# Altium schematic symbol library WCAP-AIG5.SchLib: 42 symbols
Pins are listed as number, name and electrical type; pins without a type are passive.

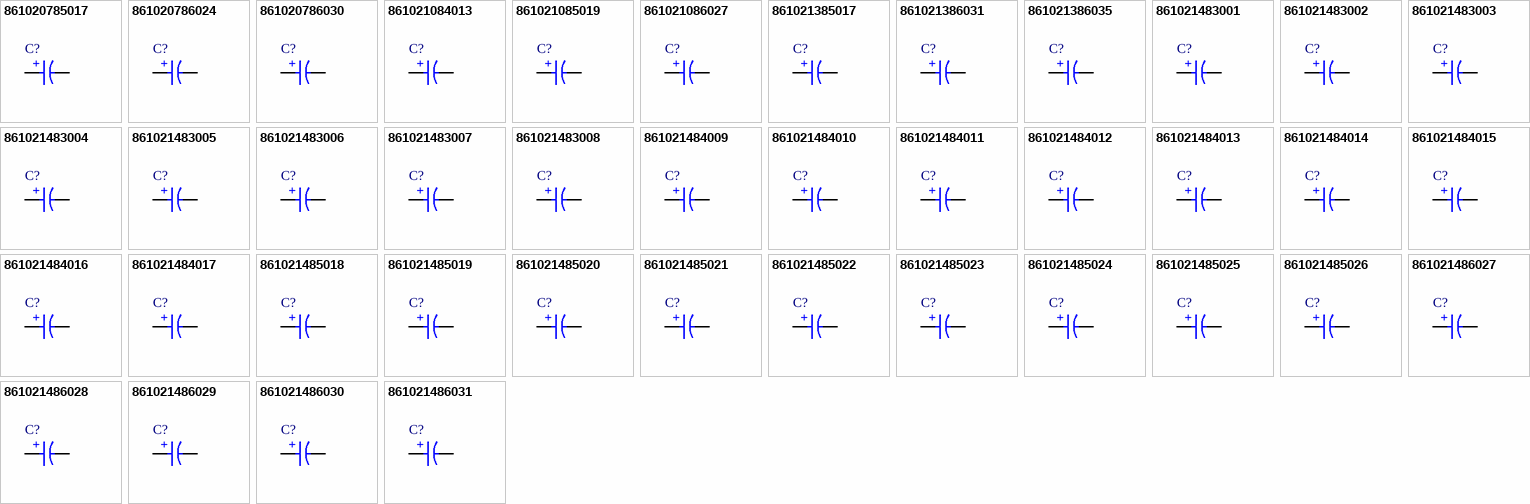
[diagram p0: symbols 861020785017 to 861021486031]

## 861020785017
designator C?, comment 3300uF  (value not drawn)
WCAP-AIG5 Aluminum Electrolytic Capacitor, THT, D30 x H30mm, 3300uF, 63V; Manufacturer Part Number: 861020785017; Manufacturer: Wurth Elektronik; Dissipation Factor: 20%; Endurance: 2000h; Leakage Current: 4158uA; Ripple Current: 2480mA; Product Series: WCAP-AIG5; ComponentLink1Description: Website Link; ComponentLink1URL: https://www.we-online.com; ComponentLink2Description: Datasheet Link; ComponentLink2URL: https://www.we-online.com/components/products/datasheet/861020785017; Mount: Through Hole; Operating Temperature Min: -40degC; Operating Temperature Max: 105degC; Packaging: Tray; Height: 30mm; Diameter: 30mm; Capacitance: 3300uF; Lead Pitch: 10mm; Rated Voltage (DC): 63V
footprint WCAP-AIG5_D30H30
simulation model 861020785017_3.3mF
pins: 1 P, 2 N
text: +

## 861020786024
designator C?, comment 4700uF  (value not drawn)
WCAP-AIG5 Aluminum Electrolytic Capacitor, THT, D35 x H30mm, 4700uF, 63V; Manufacturer Part Number: 861020786024; Manufacturer: Wurth Elektronik; Dissipation Factor: 30%; Endurance: 2000h; Leakage Current: 5922uA; Ripple Current: 3430mA; Product Series: WCAP-AIG5; ComponentLink1Description: Website Link; ComponentLink1URL: https://www.we-online.com; ComponentLink2Description: Datasheet Link; ComponentLink2URL: https://www.we-online.com/components/products/datasheet/861020786024; Mount: Through Hole; Operating Temperature Min: -40degC; Operating Temperature Max: 105degC; Packaging: Tray; Height: 30mm; Diameter: 35mm; Capacitance: 4700uF; Lead Pitch: 10mm; Rated Voltage (DC): 63V
footprint WCAP-AIG5_D35H30
simulation model 861020786024_4.7mF
pins: 1 P, 2 N
text: +

## 861020786030
designator C?, comment 10000uF  (value not drawn)
WCAP-AIG5 Aluminum Electrolytic Capacitor, THT, D35 x H45mm, 10000uF, 63V; Manufacturer Part Number: 861020786030; Manufacturer: Wurth Elektronik; Dissipation Factor: 30%; Endurance: 2000h; Leakage Current: 12600uA; Ripple Current: 5510mA; Product Series: WCAP-AIG5; ComponentLink1Description: Website Link; ComponentLink1URL: https://www.we-online.com; ComponentLink2Description: Datasheet Link; ComponentLink2URL: https://www.we-online.com/components/products/datasheet/861020786030; Mount: Through Hole; Operating Temperature Min: -40degC; Operating Temperature Max: 105degC; Packaging: Tray; Height: 45mm; Diameter: 35mm; Capacitance: 10000uF; Lead Pitch: 10mm; Rated Voltage (DC): 63V
footprint WCAP-AIG5_D35H45
simulation model 861020786030_10mF
pins: 1 P, 2 N
text: +

## 861021084013
designator C?, comment 470uF  (value not drawn)
WCAP-AIG5 Aluminum Electrolytic Capacitor, THT, D25 x H25mm, 470uF, 200V; Manufacturer Part Number: 861021084013; Manufacturer: Wurth Elektronik; Dissipation Factor: 15%; Endurance: 2000h; Leakage Current: 1880uA; Ripple Current: 1490mA; Product Series: WCAP-AIG5; ComponentLink1Description: Website Link; ComponentLink1URL: https://www.we-online.com; ComponentLink2Description: Datasheet Link; ComponentLink2URL: https://www.we-online.com/components/products/datasheet/861021084013; Mount: Through Hole; Operating Temperature Min: -25degC; Operating Temperature Max: 105degC; Packaging: Tray; Height: 25mm; Diameter: 25mm; Capacitance: 470uF; Lead Pitch: 10mm; Rated Voltage (DC): 200V
footprint WCAP-AIG5_D25H25
simulation model 861021084013_470uF
pins: 1 P, 2 N
text: +

## 861021085019
designator C?, comment 680uF  (value not drawn)
WCAP-AIG5 Aluminum Electrolytic Capacitor, THT, D30 x H30mm, 680uF, 200V; Manufacturer Part Number: 861021085019; Manufacturer: Wurth Elektronik; Dissipation Factor: 15%; Endurance: 2000h; Leakage Current: 2720uA; Ripple Current: 2150mA; Product Series: WCAP-AIG5; ComponentLink1Description: Website Link; ComponentLink1URL: https://www.we-online.com; ComponentLink2Description: Datasheet Link; ComponentLink2URL: https://www.we-online.com/components/products/datasheet/861021085019; Mount: Through Hole; Operating Temperature Min: -25degC; Operating Temperature Max: 105degC; Packaging: Tray; Height: 30mm; Diameter: 30mm; Capacitance: 680uF; Lead Pitch: 10mm; Rated Voltage (DC): 200V
footprint WCAP-AIG5_D30H30
simulation model 861021085019_680uF
pins: 1 P, 2 N
text: +

## 861021086027
designator C?, comment 1000uF  (value not drawn)
WCAP-AIG5 Aluminum Electrolytic Capacitor, THT, D35 x H30mm, 1000uF, 200V; Manufacturer Part Number: 861021086027; Manufacturer: Wurth Elektronik; Dissipation Factor: 15%; Endurance: 2000h; Leakage Current: 4000uA; Ripple Current: 2580mA; Product Series: WCAP-AIG5; ComponentLink1Description: Website Link; ComponentLink1URL: https://www.we-online.com; ComponentLink2Description: Datasheet Link; ComponentLink2URL: https://www.we-online.com/components/products/datasheet/861021086027; Mount: Through Hole; Operating Temperature Min: -25degC; Operating Temperature Max: 105degC; Packaging: Tray; Height: 30mm; Diameter: 35mm; Capacitance: 1000uF; Lead Pitch: 10mm; Rated Voltage (DC): 200V
footprint WCAP-AIG5_D35H30
simulation model 861021086027_1mF
pins: 1 P, 2 N
text: +

## 861021385017
designator C?, comment 220uF  (value not drawn)
WCAP-AIG5 Aluminum Electrolytic Capacitor, THT, D30 x H25mm, 220uF, 400V; Manufacturer Part Number: 861021385017; Manufacturer: Wurth Elektronik; Dissipation Factor: 20%; Endurance: 2000h; Leakage Current: 1760uA; Ripple Current: 1110mA; Product Series: WCAP-AIG5; ComponentLink1Description: Website Link; ComponentLink1URL: https://www.we-online.com; ComponentLink2Description: Datasheet Link; ComponentLink2URL: https://www.we-online.com/components/products/datasheet/861021385017; Mount: Through Hole; Operating Temperature Min: -25degC; Operating Temperature Max: 105degC; Packaging: Tray; Height: 25mm; Diameter: 30mm; Capacitance: 220uF; Lead Pitch: 10mm; Rated Voltage (DC): 400V
footprint WCAP-AIG5_D30H25
simulation model 861021385017_220uF
pins: 1 P, 2 N
text: +

## 861021386031
designator C?, comment 470uF  (value not drawn)
WCAP-AIG5 Aluminum Electrolytic Capacitor, THT, D35 x H35mm, 470uF, 400V; Manufacturer Part Number: 861021386031; Manufacturer: Wurth Elektronik; Dissipation Factor: 20%; Endurance: 2000h; Leakage Current: 3760uA; Ripple Current: 1950mA; Product Series: WCAP-AIG5; ComponentLink1Description: Website Link; ComponentLink1URL: https://www.we-online.com; ComponentLink2Description: Datasheet Link; ComponentLink2URL: https://www.we-online.com/components/products/datasheet/861021386031; Mount: Through Hole; Operating Temperature Min: -25degC; Operating Temperature Max: 105degC; Packaging: Tray; Height: 35mm; Diameter: 35mm; Capacitance: 470uF; Lead Pitch: 10mm; Rated Voltage (DC): 400V
footprint WCAP-AIG5_D35H35
simulation model 861021386031_470uF
pins: 1 P, 2 N
text: +

## 861021386035
designator C?, comment 1000uF  (value not drawn)
WCAP-AIG5 Aluminum Electrolytic Capacitor, THT, D35 x H60mm, 1000uF, 400V; Manufacturer Part Number: 861021386035; Manufacturer: Wurth Elektronik; Dissipation Factor: 20%; Endurance: 2000h; Leakage Current: 8000uA; Ripple Current: 3410mA; Product Series: WCAP-AIG5; ComponentLink1Description: Website Link; ComponentLink1URL: https://www.we-online.com; ComponentLink2Description: Datasheet Link; ComponentLink2URL: https://www.we-online.com/components/products/datasheet/861021386035; Mount: Through Hole; Operating Temperature Min: -25degC; Operating Temperature Max: 105degC; Packaging: Tray; Height: 60mm; Diameter: 35mm; Capacitance: 1000uF; Lead Pitch: 10mm; Rated Voltage (DC): 400V
footprint WCAP-AIG5_D35H60
simulation model 861021386035_1mF
pins: 1 P, 2 N
text: +

## 861021483001
designator C?, comment 33uF  (value not drawn)
WCAP-AIG5 Aluminum Electrolytic Capacitor, THT, D22 x H25mm, 33uF, 450V; Manufacturer Part Number: 861021483001; Manufacturer: Wurth Elektronik; Dissipation Factor: 20%; Endurance: 2000h; Leakage Current: 297uA; Ripple Current: 360mA; Product Series: WCAP-AIG5; ComponentLink1Description: Website Link; ComponentLink1URL: https://www.we-online.com; ComponentLink2Description: Datasheet Link; ComponentLink2URL: https://www.we-online.com/components/products/datasheet/861021483001; Mount: Through Hole; Operating Temperature Min: -25degC; Operating Temperature Max: 105degC; Packaging: Tray; Height: 25mm; Diameter: 22mm; Capacitance: 33uF; Lead Pitch: 10mm; Rated Voltage (DC): 450V
footprint WCAP-AIG5_D22H25
simulation model 861021483001_33uF
pins: 1 P, 2 N
text: +

## 861021483002
designator C?, comment 47uF  (value not drawn)
WCAP-AIG5 Aluminum Electrolytic Capacitor, THT, D22 x H30mm, 47uF, 450V; Manufacturer Part Number: 861021483002; Manufacturer: Wurth Elektronik; Dissipation Factor: 20%; Endurance: 2000h; Leakage Current: 423uA; Ripple Current: 420mA; Product Series: WCAP-AIG5; ComponentLink1Description: Website Link; ComponentLink1URL: https://www.we-online.com; ComponentLink2Description: Datasheet Link; ComponentLink2URL: https://www.we-online.com/components/products/datasheet/861021483002; Mount: Through Hole; Operating Temperature Min: -25degC; Operating Temperature Max: 105degC; Packaging: Tray; Height: 30mm; Diameter: 22mm; Capacitance: 47uF; Lead Pitch: 10mm; Rated Voltage (DC): 450V
footprint WCAP-AIG5_D22H30
simulation model 861021483002_47uF
pins: 1 P, 2 N
text: +

## 861021483003
designator C?, comment 56uF  (value not drawn)
WCAP-AIG5 Aluminum Electrolytic Capacitor, THT, D22 x H30mm, 56uF, 450V; Manufacturer Part Number: 861021483003; Manufacturer: Wurth Elektronik; Dissipation Factor: 20%; Endurance: 2000h; Leakage Current: 504uA; Ripple Current: 490mA; Product Series: WCAP-AIG5; ComponentLink1Description: Website Link; ComponentLink1URL: https://www.we-online.com; ComponentLink2Description: Datasheet Link; ComponentLink2URL: https://www.we-online.com/components/products/datasheet/861021483003; Mount: Through Hole; Operating Temperature Min: -25degC; Operating Temperature Max: 105degC; Packaging: Tray; Height: 30mm; Diameter: 22mm; Capacitance: 56uF; Lead Pitch: 10mm; Rated Voltage (DC): 450V
footprint WCAP-AIG5_D22H30
simulation model 861021483003_56uF
pins: 1 P, 2 N
text: +

## 861021483004
designator C?, comment 68uF  (value not drawn)
WCAP-AIG5 Aluminum Electrolytic Capacitor, THT, D22 x H35mm, 68uF, 450V; Manufacturer Part Number: 861021483004; Manufacturer: Wurth Elektronik; Dissipation Factor: 20%; Endurance: 2000h; Leakage Current: 612uA; Ripple Current: 620mA; Product Series: WCAP-AIG5; ComponentLink1Description: Website Link; ComponentLink1URL: https://www.we-online.com; ComponentLink2Description: Datasheet Link; ComponentLink2URL: https://www.we-online.com/components/products/datasheet/861021483004; Mount: Through Hole; Operating Temperature Min: -25degC; Operating Temperature Max: 105degC; Packaging: Tray; Height: 35mm; Diameter: 22mm; Capacitance: 68uF; Lead Pitch: 10mm; Rated Voltage (DC): 450V
footprint WCAP-AIG5_D22H35
simulation model 861021483004_68uF
pins: 1 P, 2 N
text: +

## 861021483005
designator C?, comment 82uF  (value not drawn)
WCAP-AIG5 Aluminum Electrolytic Capacitor, THT, D22 x H35mm, 82uF, 450V; Manufacturer Part Number: 861021483005; Manufacturer: Wurth Elektronik; Dissipation Factor: 20%; Endurance: 2000h; Leakage Current: 738uA; Ripple Current: 770mA; Product Series: WCAP-AIG5; ComponentLink1Description: Website Link; ComponentLink1URL: https://www.we-online.com; ComponentLink2Description: Datasheet Link; ComponentLink2URL: https://www.we-online.com/components/products/datasheet/861021483005; Mount: Through Hole; Operating Temperature Min: -25degC; Operating Temperature Max: 105degC; Packaging: Tray; Height: 35mm; Diameter: 22mm; Capacitance: 82uF; Lead Pitch: 10mm; Rated Voltage (DC): 450V
footprint WCAP-AIG5_D22H35
simulation model 861021483005_82uF
pins: 1 P, 2 N
text: +

## 861021483006
designator C?, comment 100uF  (value not drawn)
WCAP-AIG5 Aluminum Electrolytic Capacitor, THT, D22 x H40mm, 100uF, 450V; Manufacturer Part Number: 861021483006; Manufacturer: Wurth Elektronik; Dissipation Factor: 20%; Endurance: 2000h; Leakage Current: 900uA; Ripple Current: 860mA; Product Series: WCAP-AIG5; ComponentLink1Description: Website Link; ComponentLink1URL: https://www.we-online.com; ComponentLink2Description: Datasheet Link; ComponentLink2URL: https://www.we-online.com/components/products/datasheet/861021483006; Mount: Through Hole; Operating Temperature Min: -25degC; Operating Temperature Max: 105degC; Packaging: Tray; Height: 40mm; Diameter: 22mm; Capacitance: 100uF; Lead Pitch: 10mm; Rated Voltage (DC): 450V
footprint WCAP-AIG5_D22H40
simulation model 861021483006_100uF
pins: 1 P, 2 N
text: +

## 861021483007
designator C?, comment 120uF  (value not drawn)
WCAP-AIG5 Aluminum Electrolytic Capacitor, THT, D22 x H45mm, 120uF, 450V; Manufacturer Part Number: 861021483007; Manufacturer: Wurth Elektronik; Dissipation Factor: 20%; Endurance: 2000h; Leakage Current: 1080uA; Ripple Current: 960mA; Product Series: WCAP-AIG5; ComponentLink1Description: Website Link; ComponentLink1URL: https://www.we-online.com; ComponentLink2Description: Datasheet Link; ComponentLink2URL: https://www.we-online.com/components/products/datasheet/861021483007; Mount: Through Hole; Operating Temperature Min: -25degC; Operating Temperature Max: 105degC; Packaging: Tray; Height: 45mm; Diameter: 22mm; Capacitance: 120uF; Lead Pitch: 10mm; Rated Voltage (DC): 450V
footprint WCAP-AIG5_D22H45
simulation model 861021483007_120uF
pins: 1 P, 2 N
text: +

## 861021483008
designator C?, comment 150uF  (value not drawn)
WCAP-AIG5 Aluminum Electrolytic Capacitor, THT, D22 x H50mm, 150uF, 450V; Manufacturer Part Number: 861021483008; Manufacturer: Wurth Elektronik; Dissipation Factor: 20%; Endurance: 2000h; Leakage Current: 1350uA; Ripple Current: 1060mA; Product Series: WCAP-AIG5; ComponentLink1Description: Website Link; ComponentLink1URL: https://www.we-online.com; ComponentLink2Description: Datasheet Link; ComponentLink2URL: https://www.we-online.com/components/products/datasheet/861021483008; Mount: Through Hole; Operating Temperature Min: -25degC; Operating Temperature Max: 105degC; Packaging: Tray; Height: 50mm; Diameter: 22mm; Capacitance: 150uF; Lead Pitch: 10mm; Rated Voltage (DC): 450V
footprint WCAP-AIG5_D22H50
simulation model 861021483008_150uF
pins: 1 P, 2 N
text: +

## 861021484009
designator C?, comment 47uF  (value not drawn)
WCAP-AIG5 Aluminum Electrolytic Capacitor, THT, D25 x H25mm, 47uF, 450V; Manufacturer Part Number: 861021484009; Manufacturer: Wurth Elektronik; Dissipation Factor: 20%; Endurance: 2000h; Leakage Current: 423uA; Ripple Current: 420mA; Product Series: WCAP-AIG5; ComponentLink1Description: Website Link; ComponentLink1URL: https://www.we-online.com; ComponentLink2Description: Datasheet Link; ComponentLink2URL: https://www.we-online.com/components/products/datasheet/861021484009; Mount: Through Hole; Operating Temperature Min: -25degC; Operating Temperature Max: 105degC; Packaging: Tray; Height: 25mm; Diameter: 25mm; Capacitance: 47uF; Lead Pitch: 10mm; Rated Voltage (DC): 450V
footprint WCAP-AIG5_D25H25
simulation model 861021484009_47uF
pins: 1 P, 2 N
text: +

## 861021484010
designator C?, comment 56uF  (value not drawn)
WCAP-AIG5 Aluminum Electrolytic Capacitor, THT, D25 x H25mm, 56uF, 450V; Manufacturer Part Number: 861021484010; Manufacturer: Wurth Elektronik; Dissipation Factor: 20%; Endurance: 2000h; Leakage Current: 504uA; Ripple Current: 470mA; Product Series: WCAP-AIG5; ComponentLink1Description: Website Link; ComponentLink1URL: https://www.we-online.com; ComponentLink2Description: Datasheet Link; ComponentLink2URL: https://www.we-online.com/components/products/datasheet/861021484010; Mount: Through Hole; Operating Temperature Min: -25degC; Operating Temperature Max: 105degC; Packaging: Tray; Height: 25mm; Diameter: 25mm; Capacitance: 56uF; Lead Pitch: 10mm; Rated Voltage (DC): 450V
footprint WCAP-AIG5_D25H25
simulation model 861021484010_56uF
pins: 1 P, 2 N
text: +

## 861021484011
designator C?, comment 68uF  (value not drawn)
WCAP-AIG5 Aluminum Electrolytic Capacitor, THT, D25 x H30mm, 68uF, 450V; Manufacturer Part Number: 861021484011; Manufacturer: Wurth Elektronik; Dissipation Factor: 20%; Endurance: 2000h; Leakage Current: 612uA; Ripple Current: 500mA; Product Series: WCAP-AIG5; ComponentLink1Description: Website Link; ComponentLink1URL: https://www.we-online.com; ComponentLink2Description: Datasheet Link; ComponentLink2URL: https://www.we-online.com/components/products/datasheet/861021484011; Mount: Through Hole; Operating Temperature Min: -25degC; Operating Temperature Max: 105degC; Packaging: Tray; Height: 30mm; Diameter: 25mm; Capacitance: 68uF; Lead Pitch: 10mm; Rated Voltage (DC): 450V
footprint WCAP-AIG5_D25H30
simulation model 861021484011_68uF
pins: 1 P, 2 N
text: +

## 861021484012
designator C?, comment 82uF  (value not drawn)
WCAP-AIG5 Aluminum Electrolytic Capacitor, THT, D25 x H30mm, 82uF, 450V; Manufacturer Part Number: 861021484012; Manufacturer: Wurth Elektronik; Dissipation Factor: 20%; Endurance: 2000h; Leakage Current: 738uA; Ripple Current: 780mA; Product Series: WCAP-AIG5; ComponentLink1Description: Website Link; ComponentLink1URL: https://www.we-online.com; ComponentLink2Description: Datasheet Link; ComponentLink2URL: https://www.we-online.com/components/products/datasheet/861021484012; Mount: Through Hole; Operating Temperature Min: -25degC; Operating Temperature Max: 105degC; Packaging: Tray; Height: 30mm; Diameter: 25mm; Capacitance: 82uF; Lead Pitch: 10mm; Rated Voltage (DC): 450V
footprint WCAP-AIG5_D25H30
simulation model 861021484012_82uF
pins: 1 P, 2 N
text: +

## 861021484013
designator C?, comment 100uF  (value not drawn)
WCAP-AIG5 Aluminum Electrolytic Capacitor, THT, D25 x H30mm, 100uF, 450V; Manufacturer Part Number: 861021484013; Manufacturer: Wurth Elektronik; Dissipation Factor: 20%; Endurance: 2000h; Leakage Current: 900uA; Ripple Current: 820mA; Product Series: WCAP-AIG5; ComponentLink1Description: Website Link; ComponentLink1URL: https://www.we-online.com; ComponentLink2Description: Datasheet Link; ComponentLink2URL: https://www.we-online.com/components/products/datasheet/861021484013; Mount: Through Hole; Operating Temperature Min: -25degC; Operating Temperature Max: 105degC; Packaging: Tray; Height: 30mm; Diameter: 25mm; Capacitance: 100uF; Lead Pitch: 10mm; Rated Voltage (DC): 450V
footprint WCAP-AIG5_D25H30
simulation model 861021484013_100uF
pins: 1 P, 2 N
text: +

## 861021484014
designator C?, comment 120uF  (value not drawn)
WCAP-AIG5 Aluminum Electrolytic Capacitor, THT, D25 x H35mm, 120uF, 450V; Manufacturer Part Number: 861021484014; Manufacturer: Wurth Elektronik; Dissipation Factor: 20%; Endurance: 2000h; Leakage Current: 1080uA; Ripple Current: 930mA; Product Series: WCAP-AIG5; ComponentLink1Description: Website Link; ComponentLink1URL: https://www.we-online.com; ComponentLink2Description: Datasheet Link; ComponentLink2URL: https://www.we-online.com/components/products/datasheet/861021484014; Mount: Through Hole; Operating Temperature Min: -25degC; Operating Temperature Max: 105degC; Packaging: Tray; Height: 35mm; Diameter: 25mm; Capacitance: 120uF; Lead Pitch: 10mm; Rated Voltage (DC): 450V
footprint WCAP-AIG5_D25H35
simulation model 861021484014_120uF
pins: 1 P, 2 N
text: +

## 861021484015
designator C?, comment 150uF  (value not drawn)
WCAP-AIG5 Aluminum Electrolytic Capacitor, THT, D25 x H40mm, 150uF, 450V; Manufacturer Part Number: 861021484015; Manufacturer: Wurth Elektronik; Dissipation Factor: 20%; Endurance: 2000h; Leakage Current: 1350uA; Ripple Current: 1040mA; Product Series: WCAP-AIG5; ComponentLink1Description: Website Link; ComponentLink1URL: https://www.we-online.com; ComponentLink2Description: Datasheet Link; ComponentLink2URL: https://www.we-online.com/components/products/datasheet/861021484015; Mount: Through Hole; Operating Temperature Min: -25degC; Operating Temperature Max: 105degC; Packaging: Tray; Height: 40mm; Diameter: 25mm; Capacitance: 150uF; Lead Pitch: 10mm; Rated Voltage (DC): 450V
footprint WCAP-AIG5_D25H40
simulation model 861021484015_150uF
pins: 1 P, 2 N
text: +

## 861021484016
designator C?, comment 180uF  (value not drawn)
WCAP-AIG5 Aluminum Electrolytic Capacitor, THT, D25 x H45mm, 180uF, 450V; Manufacturer Part Number: 861021484016; Manufacturer: Wurth Elektronik; Dissipation Factor: 20%; Endurance: 2000h; Leakage Current: 1620uA; Ripple Current: 1240mA; Product Series: WCAP-AIG5; ComponentLink1Description: Website Link; ComponentLink1URL: https://www.we-online.com; ComponentLink2Description: Datasheet Link; ComponentLink2URL: https://www.we-online.com/components/products/datasheet/861021484016; Mount: Through Hole; Operating Temperature Min: -25degC; Operating Temperature Max: 105degC; Packaging: Tray; Height: 45mm; Diameter: 25mm; Capacitance: 180uF; Lead Pitch: 10mm; Rated Voltage (DC): 450V
footprint WCAP-AIG5_D25H45
simulation model 861021484016_180uF
pins: 1 P, 2 N
text: +

## 861021484017
designator C?, comment 220uF  (value not drawn)
WCAP-AIG5 Aluminum Electrolytic Capacitor, THT, D25 x H45mm, 220uF, 450V; Manufacturer Part Number: 861021484017; Manufacturer: Wurth Elektronik; Dissipation Factor: 20%; Endurance: 2000h; Leakage Current: 1980uA; Ripple Current: 1330mA; Product Series: WCAP-AIG5; ComponentLink1Description: Website Link; ComponentLink1URL: https://www.we-online.com; ComponentLink2Description: Datasheet Link; ComponentLink2URL: https://www.we-online.com/components/products/datasheet/861021484017; Mount: Through Hole; Operating Temperature Min: -25degC; Operating Temperature Max: 105degC; Packaging: Tray; Height: 45mm; Diameter: 25mm; Capacitance: 220uF; Lead Pitch: 10mm; Rated Voltage (DC): 450V
footprint WCAP-AIG5_D25H45
simulation model 861021484017_220uF
pins: 1 P, 2 N
text: +

## 861021485018
designator C?, comment 68uF  (value not drawn)
WCAP-AIG5 Aluminum Electrolytic Capacitor, THT, D30 x H25mm, 68uF, 450V; Manufacturer Part Number: 861021485018; Manufacturer: Wurth Elektronik; Dissipation Factor: 20%; Endurance: 2000h; Leakage Current: 612uA; Ripple Current: 570mA; Product Series: WCAP-AIG5; ComponentLink1Description: Website Link; ComponentLink1URL: https://www.we-online.com; ComponentLink2Description: Datasheet Link; ComponentLink2URL: https://www.we-online.com/components/products/datasheet/861021485018; Mount: Through Hole; Operating Temperature Min: -25degC; Operating Temperature Max: 105degC; Packaging: Tray; Height: 25mm; Diameter: 30mm; Capacitance: 68uF; Lead Pitch: 10mm; Rated Voltage (DC): 450V
footprint WCAP-AIG5_D30H25
simulation model 861021485018_68uF
pins: 1 P, 2 N
text: +

## 861021485019
designator C?, comment 82uF  (value not drawn)
WCAP-AIG5 Aluminum Electrolytic Capacitor, THT, D30 x H25mm, 82uF, 450V; Manufacturer Part Number: 861021485019; Manufacturer: Wurth Elektronik; Dissipation Factor: 20%; Endurance: 2000h; Leakage Current: 738uA; Ripple Current: 790mA; Product Series: WCAP-AIG5; ComponentLink1Description: Website Link; ComponentLink1URL: https://www.we-online.com; ComponentLink2Description: Datasheet Link; ComponentLink2URL: https://www.we-online.com/components/products/datasheet/861021485019; Mount: Through Hole; Operating Temperature Min: -25degC; Operating Temperature Max: 105degC; Packaging: Tray; Height: 25mm; Diameter: 30mm; Capacitance: 82uF; Lead Pitch: 10mm; Rated Voltage (DC): 450V
footprint WCAP-AIG5_D30H25
simulation model 861021485019_82uF
pins: 1 P, 2 N
text: +

## 861021485020
designator C?, comment 100uF  (value not drawn)
WCAP-AIG5 Aluminum Electrolytic Capacitor, THT, D30 x H30mm, 100uF, 450V; Manufacturer Part Number: 861021485020; Manufacturer: Wurth Elektronik; Dissipation Factor: 20%; Endurance: 2000h; Leakage Current: 900uA; Ripple Current: 900mA; Product Series: WCAP-AIG5; ComponentLink1Description: Website Link; ComponentLink1URL: https://www.we-online.com; ComponentLink2Description: Datasheet Link; ComponentLink2URL: https://www.we-online.com/components/products/datasheet/861021485020; Mount: Through Hole; Operating Temperature Min: -25degC; Operating Temperature Max: 105degC; Packaging: Tray; Height: 30mm; Diameter: 30mm; Capacitance: 100uF; Lead Pitch: 10mm; Rated Voltage (DC): 450V
footprint WCAP-AIG5_D30H30
simulation model 861021485020_100uF
pins: 1 P, 2 N
text: +

## 861021485021
designator C?, comment 120uF  (value not drawn)
WCAP-AIG5 Aluminum Electrolytic Capacitor, THT, D30 x H30mm, 120uF, 450V; Manufacturer Part Number: 861021485021; Manufacturer: Wurth Elektronik; Dissipation Factor: 20%; Endurance: 2000h; Leakage Current: 1080uA; Ripple Current: 940mA; Product Series: WCAP-AIG5; ComponentLink1Description: Website Link; ComponentLink1URL: https://www.we-online.com; ComponentLink2Description: Datasheet Link; ComponentLink2URL: https://www.we-online.com/components/products/datasheet/861021485021; Mount: Through Hole; Operating Temperature Min: -25degC; Operating Temperature Max: 105degC; Packaging: Tray; Height: 30mm; Diameter: 30mm; Capacitance: 120uF; Lead Pitch: 10mm; Rated Voltage (DC): 450V
footprint WCAP-AIG5_D30H30
simulation model 861021485021_120uF
pins: 1 P, 2 N
text: +

## 861021485022
designator C?, comment 150uF  (value not drawn)
WCAP-AIG5 Aluminum Electrolytic Capacitor, THT, D30 x H25mm, 150uF, 450V; Manufacturer Part Number: 861021485022; Manufacturer: Wurth Elektronik; Dissipation Factor: 20%; Endurance: 2000h; Leakage Current: 1350uA; Ripple Current: 980mA; Product Series: WCAP-AIG5; ComponentLink1Description: Website Link; ComponentLink1URL: https://www.we-online.com; ComponentLink2Description: Datasheet Link; ComponentLink2URL: https://www.we-online.com/components/products/datasheet/861021485022; Mount: Through Hole; Operating Temperature Min: -25degC; Operating Temperature Max: 105degC; Packaging: Tray; Height: 25mm; Diameter: 30mm; Capacitance: 150uF; Lead Pitch: 10mm; Rated Voltage (DC): 450V
footprint WCAP-AIG5_D30H25
simulation model 861021485022_150uF
pins: 1 P, 2 N
text: +

## 861021485023
designator C?, comment 180uF  (value not drawn)
WCAP-AIG5 Aluminum Electrolytic Capacitor, THT, D30 x H25mm, 180uF, 450V; Manufacturer Part Number: 861021485023; Manufacturer: Wurth Elektronik; Dissipation Factor: 20%; Endurance: 2000h; Leakage Current: 1620uA; Ripple Current: 1100mA; Product Series: WCAP-AIG5; ComponentLink1Description: Website Link; ComponentLink1URL: https://www.we-online.com; ComponentLink2Description: Datasheet Link; ComponentLink2URL: https://www.we-online.com/components/products/datasheet/861021485023; Mount: Through Hole; Operating Temperature Min: -25degC; Operating Temperature Max: 105degC; Packaging: Tray; Height: 25mm; Diameter: 30mm; Capacitance: 180uF; Lead Pitch: 10mm; Rated Voltage (DC): 450V
footprint WCAP-AIG5_D30H25
simulation model 861021485023_180uF
pins: 1 P, 2 N
text: +

## 861021485024
designator C?, comment 220uF  (value not drawn)
WCAP-AIG5 Aluminum Electrolytic Capacitor, THT, D30 x H40mm, 220uF, 450V; Manufacturer Part Number: 861021485024; Manufacturer: Wurth Elektronik; Dissipation Factor: 20%; Endurance: 2000h; Leakage Current: 1980uA; Ripple Current: 1410mA; Product Series: WCAP-AIG5; ComponentLink1Description: Website Link; ComponentLink1URL: https://www.we-online.com; ComponentLink2Description: Datasheet Link; ComponentLink2URL: https://www.we-online.com/components/products/datasheet/861021485024; Mount: Through Hole; Operating Temperature Min: -25degC; Operating Temperature Max: 105degC; Packaging: Tray; Height: 40mm; Diameter: 30mm; Capacitance: 220uF; Lead Pitch: 10mm; Rated Voltage (DC): 450V
footprint WCAP-AIG5_D30H40
simulation model 861021485024_220uF
pins: 1 P, 2 N
text: +

## 861021485025
designator C?, comment 270uF  (value not drawn)
WCAP-AIG5 Aluminum Electrolytic Capacitor, THT, D30 x H50mm, 270uF, 450V; Manufacturer Part Number: 861021485025; Manufacturer: Wurth Elektronik; Dissipation Factor: 20%; Endurance: 2000h; Leakage Current: 2430uA; Ripple Current: 1670mA; Product Series: WCAP-AIG5; ComponentLink1Description: Website Link; ComponentLink1URL: https://www.we-online.com; ComponentLink2Description: Datasheet Link; ComponentLink2URL: https://www.we-online.com/components/products/datasheet/861021485025; Mount: Through Hole; Operating Temperature Min: -25degC; Operating Temperature Max: 105degC; Packaging: Tray; Height: 50mm; Diameter: 30mm; Capacitance: 270uF; Lead Pitch: 10mm; Rated Voltage (DC): 450V
footprint WCAP-AIG5_D30H50
simulation model 861021485025_270uF
pins: 1 P, 2 N
text: +

## 861021485026
designator C?, comment 330uF  (value not drawn)
WCAP-AIG5 Aluminum Electrolytic Capacitor, THT, D30 x H50mm, 330uF, 450V; Manufacturer Part Number: 861021485026; Manufacturer: Wurth Elektronik; Dissipation Factor: 20%; Endurance: 2000h; Leakage Current: 2970uA; Ripple Current: 1860mA; Product Series: WCAP-AIG5; ComponentLink1Description: Website Link; ComponentLink1URL: https://www.we-online.com; ComponentLink2Description: Datasheet Link; ComponentLink2URL: https://www.we-online.com/components/products/datasheet/861021485026; Mount: Through Hole; Operating Temperature Min: -25degC; Operating Temperature Max: 105degC; Packaging: Tray; Height: 50mm; Diameter: 30mm; Capacitance: 330uF; Lead Pitch: 10mm; Rated Voltage (DC): 450V
footprint WCAP-AIG5_D30H50
simulation model 861021485026_330uF
pins: 1 P, 2 N
text: +

## 861021486027
designator C?, comment 150uF  (value not drawn)
WCAP-AIG5 Aluminum Electrolytic Capacitor, THT, D35 x H25mm, 150uF, 450V; Manufacturer Part Number: 861021486027; Manufacturer: Wurth Elektronik; Dissipation Factor: 20%; Endurance: 2000h; Leakage Current: 1350uA; Ripple Current: 1080mA; Product Series: WCAP-AIG5; ComponentLink1Description: Website Link; ComponentLink1URL: https://www.we-online.com; ComponentLink2Description: Datasheet Link; ComponentLink2URL: https://www.we-online.com/components/products/datasheet/861021486027; Mount: Through Hole; Operating Temperature Min: -25degC; Operating Temperature Max: 105degC; Packaging: Tray; Height: 25mm; Diameter: 35mm; Capacitance: 150uF; Lead Pitch: 10mm; Rated Voltage (DC): 450V
footprint WCAP-AIG5_D35H25
simulation model 861021486027_150uF
pins: 1 P, 2 N
text: +

## 861021486028
designator C?, comment 180uF  (value not drawn)
WCAP-AIG5 Aluminum Electrolytic Capacitor, THT, D35 x H30mm, 180uF, 450V; Manufacturer Part Number: 861021486028; Manufacturer: Wurth Elektronik; Dissipation Factor: 20%; Endurance: 2000h; Leakage Current: 1620uA; Ripple Current: 1280mA; Product Series: WCAP-AIG5; ComponentLink1Description: Website Link; ComponentLink1URL: https://www.we-online.com; ComponentLink2Description: Datasheet Link; ComponentLink2URL: https://www.we-online.com/components/products/datasheet/861021486028; Mount: Through Hole; Operating Temperature Min: -25degC; Operating Temperature Max: 105degC; Packaging: Tray; Height: 30mm; Diameter: 35mm; Capacitance: 180uF; Lead Pitch: 10mm; Rated Voltage (DC): 450V
footprint WCAP-AIG5_D35H30
simulation model 861021486028_180uF
pins: 1 P, 2 N
text: +

## 861021486029
designator C?, comment 220uF  (value not drawn)
WCAP-AIG5 Aluminum Electrolytic Capacitor, THT, D35 x H35mm, 220uF, 450V; Manufacturer Part Number: 861021486029; Manufacturer: Wurth Elektronik; Dissipation Factor: 20%; Endurance: 2000h; Leakage Current: 1980uA; Ripple Current: 1410mA; Product Series: WCAP-AIG5; ComponentLink1Description: Website Link; ComponentLink1URL: https://www.we-online.com; ComponentLink2Description: Datasheet Link; ComponentLink2URL: https://www.we-online.com/components/products/datasheet/861021486029; Mount: Through Hole; Operating Temperature Min: -25degC; Operating Temperature Max: 105degC; Packaging: Tray; Height: 35mm; Diameter: 35mm; Capacitance: 220uF; Lead Pitch: 10mm; Rated Voltage (DC): 450V
footprint WCAP-AIG5_D35H35
simulation model 861021486029_220uF
pins: 1 P, 2 N
text: +

## 861021486030
designator C?, comment 270uF  (value not drawn)
WCAP-AIG5 Aluminum Electrolytic Capacitor, THT, D35 x H40mm, 270uF, 450V; Manufacturer Part Number: 861021486030; Manufacturer: Wurth Elektronik; Dissipation Factor: 20%; Endurance: 2000h; Leakage Current: 2430uA; Ripple Current: 1630mA; Product Series: WCAP-AIG5; ComponentLink1Description: Website Link; ComponentLink1URL: https://www.we-online.com; ComponentLink2Description: Datasheet Link; ComponentLink2URL: https://www.we-online.com/components/products/datasheet/861021486030; Mount: Through Hole; Operating Temperature Min: -25degC; Operating Temperature Max: 105degC; Packaging: Tray; Height: 40mm; Diameter: 35mm; Capacitance: 270uF; Lead Pitch: 10mm; Rated Voltage (DC): 450V
footprint WCAP-AIG5_D35H40
simulation model 861021486030_270uF
pins: 1 P, 2 N
text: +

## 861021486031
designator C?, comment 330uF  (value not drawn)
WCAP-AIG5 Aluminum Electrolytic Capacitor, THT, D35 x H45mm, 330uF, 450V; Manufacturer Part Number: 861021486031; Manufacturer: Wurth Elektronik; Dissipation Factor: 20%; Endurance: 2000h; Leakage Current: 2970uA; Ripple Current: 2070mA; Product Series: WCAP-AIG5; ComponentLink1Description: Website Link; ComponentLink1URL: https://www.we-online.com; ComponentLink2Description: Datasheet Link; ComponentLink2URL: https://www.we-online.com/components/products/datasheet/861021486031; Mount: Through Hole; Operating Temperature Min: -25degC; Operating Temperature Max: 105degC; Packaging: Tray; Height: 45mm; Diameter: 35mm; Capacitance: 330uF; Lead Pitch: 10mm; Rated Voltage (DC): 450V
footprint WCAP-AIG5_D35H45
simulation model 861021486031_330uF
pins: 1 P, 2 N
text: +

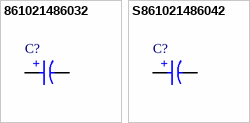
[diagram p1: symbols 861021486032 to S861021486042]

## 861021486032
designator C?, comment 390uF  (value not drawn)
WCAP-AIG5 Aluminum Electrolytic Capacitor, THT, D35 x H50mm, 390uF, 450V; Manufacturer Part Number: 861021486032; Manufacturer: Wurth Elektronik; Dissipation Factor: 20%; Endurance: 2000h; Leakage Current: 3510uA; Ripple Current: 2270mA; Product Series: WCAP-AIG5; ComponentLink1Description: Website Link; ComponentLink1URL: https://www.we-online.com; ComponentLink2Description: Datasheet Link; ComponentLink2URL: https://www.we-online.com/components/products/datasheet/861021486032; Mount: Through Hole; Operating Temperature Min: -25degC; Operating Temperature Max: 105degC; Packaging: Tray; Height: 50mm; Diameter: 35mm; Capacitance: 390uF; Lead Pitch: 10mm; Rated Voltage (DC): 450V
footprint WCAP-AIG5_D35H50
simulation model 861021486032_390uF
pins: 1 P, 2 N
text: +

## S861021486042
designator C?, comment 560uF  (value not drawn)
WCAP-AIG5 Aluminum Electrolytic Capacitor, THT, D35 x H50mm, 560uF, 450V; Manufacturer Part Number: S861021486042; Manufacturer: Wurth Elektronik; Dissipation Factor: 20%; Endurance: 2000h; Leakage Current: 1506uA; Ripple Current: 2800mA; Product Series: WCAP-AIG5; ComponentLink1Description: Website Link; ComponentLink1URL: https://www.we-online.com; ComponentLink2Description: Datasheet Link; ComponentLink2URL: https://www.we-online.com/components/products/datasheet/S861021486042; Mount: Through Hole; Operating Temperature Min: -25degC; Operating Temperature Max: 105degC; Packaging: Tray; Height: 50mm; Diameter: 35mm; Capacitance: 560uF; Lead Pitch: 10mm; Rated Voltage (DC): 450V
footprint WCAP-AIG5_D35H50
simulation model S861021486042_560uF
pins: 1 P, 2 N
text: +